# EAGLE library part LIDARLIGHT (library HElicopterLib)
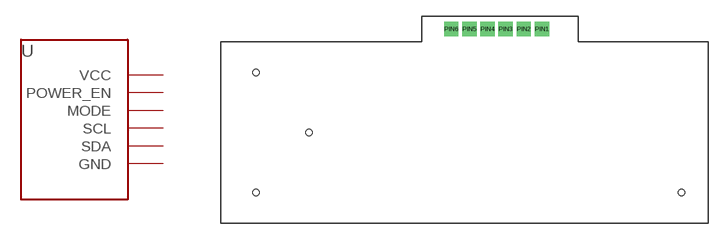
[diagram p2: symbol with the pads of LIDARLIGHT; footprint LIDARLIGHT]

Designator prefix -

## LIDARLIGHT  [LIDARLIGHT]
PIN1  VCC  pwr
PIN2  POWER_EN
PIN3  MODE
PIN4  SCL
PIN5  SDA
PIN6  GND  pwr

## Footprint LIDARLIGHT (pad centres in mm)
drill 0.8 square: PIN1 29.21,1.143; PIN2 27.559,1.143; PIN3 25.908,1.143; PIN4 24.257,1.143; PIN5 22.606,1.143; PIN6 20.955,1.143
hole 0.6 at 3.175,-2.794
hole 0.6 at 3.175,-2.794
hole 0.6 at 3.175,-13.716
hole 0.6 at 41.91,-13.716
hole 0.6 at 8.001,-8.255